# Altium integrated library Res-SMD_V2.IntLib: 2369 symbols (part 8 of 18)
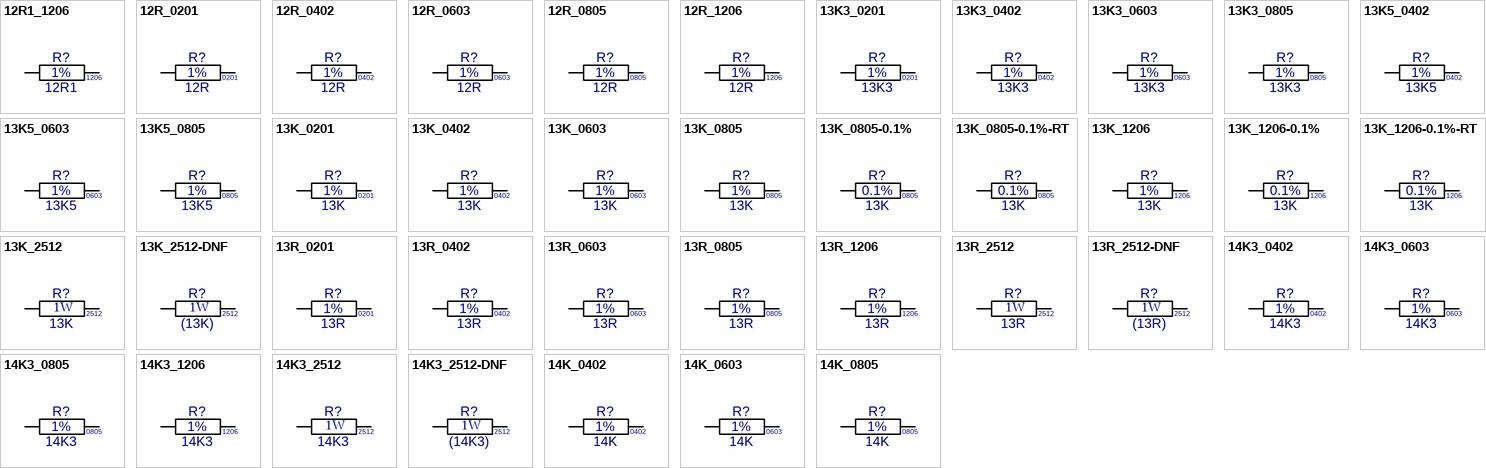
[diagram p66: symbols 12R1_1206 to 14K_0805]

## 13K_2512
designator R?, comment value 13K  Watt: 1W  Text1: 2512  (hidden comment: 13K_R2512)
Resistor Thick Film; Manufacturer: Various; Part Number: 13K 2512 1%; Tol: 1%; Package: RESC2512X71N; EDM-PN: *; Text2: *; Reutech PN: *; SAAB PN: *; DCE Part No: *
footprint RESC2512X71N (Chip Resistor, 2512, 2-Leads, Body 6.3x3.2mm, IPC Medium Density)
pins: 1, 2

## 13K_2512-DNF
designator R?, comment value (13K)  Watt: 1W  Text1: 2512  (hidden comment: 13K_R2512)
Resistor Thick Film - Do not Fit; Manufacturer: Various; Part Number: DNF - 13K 2512 1%; Tol: 1%; Package: RESC2512X71N; EDM-PN: *; Text2: *; Reutech PN: *; SAAB PN: *; DCE Part No: *
footprint RESC2512X71N (Chip Resistor, 2512, 2-Leads, Body 6.3x3.2mm, IPC Medium Density)
pins: 1, 2

## 13R_0201
designator R?, comment value 13R  Tol: 1%  Text1: 0201  (hidden comment: 13R_R0201_1%)
Resistor Chip SMD; Manufacturer: Various; Part Number: 13R 0201 1%; Watt: 31mW; Package: RESC0201X33N; EDM-PN: *; Text2: *; Reutech PN: *; SAAB PN: *; DCE Part No: *
footprint RESC0201X33N (Chip Resistor, 0201, 2-Leads, Body 0.6x0.3mm, IPC Medium Density)
pins: 1, 2

## 13R_0402
designator R?, comment value 13R  Tol: 1%  Text1: 0402  (hidden comment: 13R_R0402_1%)
Resistor Chip SMD; Manufacturer: Various; Part Number: 13R 0402 1%; Watt: 63mW; Package: RESC0402X40N; EDM-PN: *; Text2: *; Reutech PN: *; SAAB PN: *; DCE Part No: *
footprint RESC0402X40N (Chip Resistor, 0402, 2-Leads, Body 1.1x0.5mm, IPC Medium Density)
pins: 1, 2

## 13R_0603
designator R?, comment value 13R  Tol: 1%  Text1: 0603  (hidden comment: 13R_R0603_1%)
Resistor Chip SMD; Manufacturer: Various; Part Number: 13R 0603 1%; Watt: 100mW; Package: RESC0603X60N; EDM-PN: *; Text2: *; Reutech PN: *; SAAB PN: *; DCE Part No: *
footprint RESC0603X60N (Chip Resistor, 0603, 2-Leads, Body 1.6x0.8mm, IPC Medium Density)
pins: 1, 2

## 13R_0805
designator R?, comment value 13R  Tol: 1%  Text1: 0805  (hidden comment: 13R_R0805_1%)
Resistor Chip SMD; Manufacturer: Various; Part Number: 13R 0805 1%; Watt: 125mW; Package: RESC0805X65N; EDM-PN: *; Text2: *; Reutech PN: *; SAAB PN: *; DCE Part No: *
footprint RESC0805X65N (Chip Resistor, 0805, 2-Leads, Body 2.0x1.3mm, IPC Medium Density)
pins: 1, 2

## 13R_1206
designator R?, comment value 13R  Tol: 1%  Text1: 1206  (hidden comment: 13R_R1206_1%)
Resistor Chip SMD; Manufacturer: Various; Part Number: 13R 1206 1%; Watt: 250mW; Package: RESC1206X71N; EDM-PN: *; Text2: *; Reutech PN: *; SAAB PN: *; DCE Part No: *
footprint RESC1206X71N (Chip Resistor, 1206, 2-Leads, Body 3.2x1.6mm, IPC Medium Density)
pins: 1, 2

## 13R_2512
designator R?, comment value 13R  Watt: 1W  Text1: 2512  (hidden comment: 13R_R2512)
Resistor Thick Film; Manufacturer: Various; Part Number: 13R 2512 1%; Tol: 1%; Package: RESC2512X71N; EDM-PN: *; Text2: *; Reutech PN: *; SAAB PN: *; DCE Part No: *
footprint RESC2512X71N (Chip Resistor, 2512, 2-Leads, Body 6.3x3.2mm, IPC Medium Density)
pins: 1, 2

## 13R_2512-DNF
designator R?, comment value (13R)  Watt: 1W  Text1: 2512  (hidden comment: 13R_R2512)
Resistor Thick Film - Do not Fit; Manufacturer: Various; Part Number: DNF - 13R 2512 1%; Tol: 1%; Package: RESC2512X71N; EDM-PN: *; Text2: *; Reutech PN: *; SAAB PN: *; DCE Part No: *
footprint RESC2512X71N (Chip Resistor, 2512, 2-Leads, Body 6.3x3.2mm, IPC Medium Density)
pins: 1, 2

## 14K3_0402
designator R?, comment value 14K3  Tol: 1%  Text1: 0402  (hidden comment: 14K3_R0402_1%)
Resistor Chip SMD; Manufacturer: Various; Part Number: 14K3 0402 1%; Watt: 63mW; Package: RESC0402X40N; EDM-PN: *; Text2: *; Reutech PN: *; SAAB PN: *; DCE Part No: *
footprint RESC0402X40N (Chip Resistor, 0402, 2-Leads, Body 1.1x0.5mm, IPC Medium Density)
pins: 1, 2

## 14K3_0603
designator R?, comment value 14K3  Tol: 1%  Text1: 0603  (hidden comment: 14K3_R0603_1%)
Resistor Chip SMD; Manufacturer: Various; Part Number: 14K3 0603 1%; Watt: 100mW; Package: RESC0603X60N; EDM-PN: *; Text2: *; Reutech PN: *; SAAB PN: *; DCE Part No: *
footprint RESC0603X60N (Chip Resistor, 0603, 2-Leads, Body 1.6x0.8mm, IPC Medium Density)
pins: 1, 2

## 14K3_0805
designator R?, comment value 14K3  Tol: 1%  Text1: 0805  (hidden comment: 14K3_R0805_1%)
Resistor Chip SMD; Manufacturer: Various; Part Number: 14K3 0805 1%; Watt: 125mW; Package: RESC0805X65N; EDM-PN: *; Text2: *; Reutech PN: *; SAAB PN: *; DCE Part No: *
footprint RESC0805X65N (Chip Resistor, 0805, 2-Leads, Body 2.0x1.3mm, IPC Medium Density)
pins: 1, 2

## 14K3_1206
designator R?, comment value 14K3  Tol: 1%  Text1: 1206  (hidden comment: 14K3_R1206_1%)
Resistor Chip SMD; Manufacturer: Various; Part Number: 14K3 1206 1%; Watt: 250mW; Package: RESC1206X71N; EDM-PN: *; Text2: *; Reutech PN: *; SAAB PN: *; DCE Part No: *
footprint RESC1206X71N (Chip Resistor, 1206, 2-Leads, Body 3.2x1.6mm, IPC Medium Density)
pins: 1, 2

## 14K3_2512
designator R?, comment value 14K3  Watt: 1W  Text1: 2512  (hidden comment: 14K3_R2512)
Resistor Thick Film; Manufacturer: Various; Part Number: 14K3 2512 1%; Tol: 1%; Package: RESC2512X71N; EDM-PN: *; Text2: *; Reutech PN: *; SAAB PN: *; DCE Part No: *
footprint RESC2512X71N (Chip Resistor, 2512, 2-Leads, Body 6.3x3.2mm, IPC Medium Density)
pins: 1, 2

## 14K3_2512-DNF
designator R?, comment value (14K3)  Watt: 1W  Text1: 2512  (hidden comment: 14K3_R2512)
Resistor Thick Film - Do not Fit; Manufacturer: Various; Part Number: DNF - 14K2 2512 1%; Tol: 1%; Package: RESC2512X71N; EDM-PN: *; Text2: *; Reutech PN: *; SAAB PN: *; DCE Part No: *
footprint RESC2512X71N (Chip Resistor, 2512, 2-Leads, Body 6.3x3.2mm, IPC Medium Density)
pins: 1, 2

## 14K_0402
designator R?, comment value 14K  Tol: 1%  Text1: 0402  (hidden comment: 14K_R0402_1%)
Resistor Chip SMD; Manufacturer: Various; Part Number: 14K 0402 1%; Watt: 63mW; Package: RESC0402X40N; EDM-PN: *; Text2: *; Reutech PN: *; SAAB PN: *; DCE Part No: *
footprint RESC0402X40N (Chip Resistor, 0402, 2-Leads, Body 1.1x0.5mm, IPC Medium Density)
pins: 1, 2

## 14K_0603
designator R?, comment value 14K  Tol: 1%  Text1: 0603  (hidden comment: 14K_R0603_1%)
Resistor Chip SMD; Manufacturer: Various; Part Number: 14K 0603 1%; Watt: 100mW; Package: RESC0603X60N; EDM-PN: *; Text2: *; Reutech PN: *; SAAB PN: *; DCE Part No: *
footprint RESC0603X60N (Chip Resistor, 0603, 2-Leads, Body 1.6x0.8mm, IPC Medium Density)
pins: 1, 2

## 14K_0805
designator R?, comment value 14K  Tol: 1%  Text1: 0805  (hidden comment: 14K_R0805_1%)
Resistor Chip SMD; Manufacturer: Various; Part Number: 14K 0805 1%; Watt: 125mW; Package: RESC0805X65N; EDM-PN: *; Text2: *; Reutech PN: *; SAAB PN: *; DCE Part No: *
footprint RESC0805X65N (Chip Resistor, 0805, 2-Leads, Body 2.0x1.3mm, IPC Medium Density)
pins: 1, 2

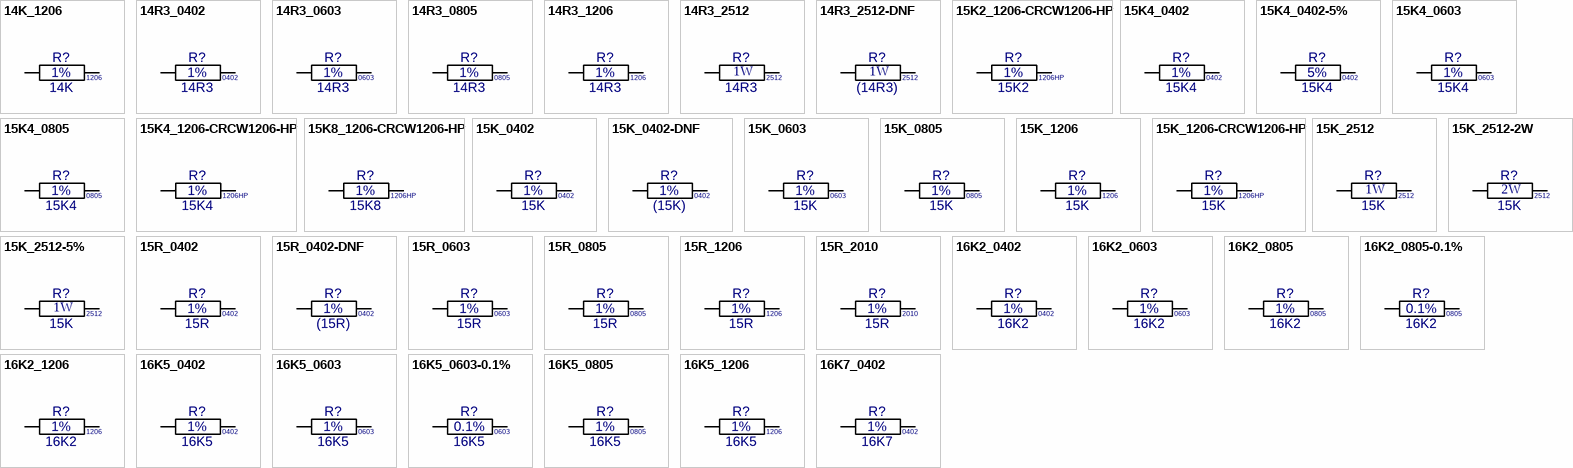
[diagram p24: symbols 14K_1206 to 16K7_0402]

## 14K_1206
designator R?, comment value 14K  Tol: 1%  Text1: 1206  (hidden comment: 14K_R1206_1%)
Resistor Chip SMD; Manufacturer: Various; Part Number: 14K 1206 1%; Watt: 250mW; Package: RESC1206X71N; EDM-PN: *; Text2: *; Reutech PN: *; SAAB PN: *; DCE Part No: *
footprint RESC1206X71N (Chip Resistor, 1206, 2-Leads, Body 3.2x1.6mm, IPC Medium Density)
pins: 1, 2

## 14R3_0402
designator R?, comment value 14R3  Tol: 1%  Text1: 0402  (hidden comment: 14R3_R0402_1%)
Resistor Chip SMD; Manufacturer: Various; Part Number: 14R3 0402 1%; Watt: 63mW; Package: RESC0402X40N; EDM-PN: *; Text2: *; Reutech PN: *; SAAB PN: *; DCE Part No: *
footprint RESC0402X40N (Chip Resistor, 0402, 2-Leads, Body 1.1x0.5mm, IPC Medium Density)
pins: 1, 2

## 14R3_0603
designator R?, comment value 14R3  Tol: 1%  Text1: 0603  (hidden comment: 14R3_R0603_1%)
Resistor Chip SMD; Manufacturer: Various; Part Number: 14R3 0603 1%; Watt: 100mW; Package: RESC0603X60N; EDM-PN: *; Text2: *; Reutech PN: *; SAAB PN: *; DCE Part No: *
footprint RESC0603X60N (Chip Resistor, 0603, 2-Leads, Body 1.6x0.8mm, IPC Medium Density)
pins: 1, 2

## 14R3_0805
designator R?, comment value 14R3  Tol: 1%  Text1: 0805  (hidden comment: 14R3_R0805_1%)
Resistor Chip SMD; Manufacturer: Various; Part Number: 14R3 0805 1%; Watt: 125mW; Package: RESC0805X65N; EDM-PN: *; Text2: *; Reutech PN: *; SAAB PN: *; DCE Part No: *
footprint RESC0805X65N (Chip Resistor, 0805, 2-Leads, Body 2.0x1.3mm, IPC Medium Density)
pins: 1, 2

## 14R3_1206
designator R?, comment value 14R3  Tol: 1%  Text1: 1206  (hidden comment: 14R3_R1206_1%)
Resistor Chip SMD; Manufacturer: Various; Part Number: 14R3 1206 1%; Watt: 250mW; Package: RESC1206X71N; EDM-PN: *; Text2: *; Reutech PN: *; SAAB PN: *; DCE Part No: *
footprint RESC1206X71N (Chip Resistor, 1206, 2-Leads, Body 3.2x1.6mm, IPC Medium Density)
pins: 1, 2

## 14R3_2512
designator R?, comment value 14R3  Watt: 1W  Text1: 2512  (hidden comment: 14R3_R2512)
Resistor Thick Film; Manufacturer: Various; Part Number: 14R3 2512 1%; Tol: 1%; Package: RESC2512X71N; EDM-PN: *; Text2: *; Reutech PN: *; SAAB PN: *; DCE Part No: *
footprint RESC2512X71N (Chip Resistor, 2512, 2-Leads, Body 6.3x3.2mm, IPC Medium Density)
pins: 1, 2

## 14R3_2512-DNF
designator R?, comment value (14R3)  Watt: 1W  Text1: 2512  (hidden comment: 14R3_R2512)
Resistor Thick Film - Do not Fit; Manufacturer: Various; Part Number: DNF - 14R2 2512 1%; Tol: 1%; Package: RESC2512X71N; EDM-PN: *; Text2: *; Reutech PN: *; SAAB PN: *; DCE Part No: *
footprint RESC2512X71N (Chip Resistor, 2512, 2-Leads, Body 6.3x3.2mm, IPC Medium Density)
pins: 1, 2

## 15K2_1206-CRCW1206-HP
designator R?, comment value 15K2  Tol: 1%  Text1: 1206HP  (hidden comment: 15K2_R1206_1%-CRCW1206-HP)
Resistor Chip Pulse Proof High Power Thick Film; Manufacturer: Vishay; Part Number: CRCW120615K2FKEAHP; Watt: 500mW; Package: CRCW1206-HP; EDM-PN: *; Text2: *; Reutech PN: *; SAAB PN: *; DCE Part No: *
footprint CRCW1206-HP (CCRCW1206-HP 3.2x1.6mm, IPC Medium Density)
pins: 1, 2

## 15K4_0402
designator R?, comment value 15K4  Tol: 1%  Text1: 0402  (hidden comment: 15K4_R0402_1%)
Resistor Chip SMD; Manufacturer: Various; Part Number: 15K4 0402 1%; Watt: 63mW; Package: RESC0402X40N; EDM-PN: *; Text2: *; Reutech PN: *; SAAB PN: *; DCE Part No: *
footprint RESC0402X40N (Chip Resistor, 0402, 2-Leads, Body 1.1x0.5mm, IPC Medium Density)
pins: 1, 2

## 15K4_0402-5%
designator R?, comment value 15K4  Tol: 5%  Text1: 0402  (hidden comment: 15K4_R0402_5%)
Resistor Chip SMD; Manufacturer: Various; Part Number: 15K4 0402 5%; Watt: 63mW; Package: RESC0402X40N; EDM-PN: *; Text2: *; Reutech PN: *; SAAB PN: *; DCE Part No: *
footprint RESC0402X40N (Chip Resistor, 0402, 2-Leads, Body 1.1x0.5mm, IPC Medium Density)
pins: 1, 2

## 15K4_0603
designator R?, comment value 15K4  Tol: 1%  Text1: 0603  (hidden comment: 15K4_R0603_1%)
Resistor Chip SMD; Manufacturer: Various; Part Number: 15K4 0603 1%; Watt: 100mW; Package: RESC0603X60N; EDM-PN: *; Text2: *; Reutech PN: *; SAAB PN: *; DCE Part No: *
footprint RESC0603X60N (Chip Resistor, 0603, 2-Leads, Body 1.6x0.8mm, IPC Medium Density)
pins: 1, 2

## 15K4_0805
designator R?, comment value 15K4  Tol: 1%  Text1: 0805  (hidden comment: 15K4_R0805_1%)
Resistor Chip SMD; Manufacturer: Various; Part Number: 15K4 0805 1%; Watt: 125mW; Package: RESC0805X65N; EDM-PN: *; Text2: *; Reutech PN: *; SAAB PN: *; DCE Part No: *
footprint RESC0805X65N (Chip Resistor, 0805, 2-Leads, Body 2.0x1.3mm, IPC Medium Density)
pins: 1, 2

## 15K4_1206-CRCW1206-HP
designator R?, comment value 15K4  Tol: 1%  Text1: 1206HP  (hidden comment: 15K4_R1206_1%-CRCW1206-HP)
Resistor Chip Pulse Proof High Power Thick Film; Manufacturer: Vishay; Part Number: CRCW120615K4FKEAHP; Watt: 500mW; Package: CRCW1206-HP; EDM-PN: *; Text2: *; Reutech PN: *; SAAB PN: *; DCE Part No: *
footprint CRCW1206-HP (CCRCW1206-HP 3.2x1.6mm, IPC Medium Density)
pins: 1, 2

## 15K8_1206-CRCW1206-HP
designator R?, comment value 15K8  Tol: 1%  Text1: 1206HP  (hidden comment: 15K8_R1206_1%-CRCW1206-HP)
Resistor Chip Pulse Proof High Power Thick Film; Manufacturer: Vishay; Part Number: CRCW120615K8FKEAHP; Watt: 500mW; Package: CRCW1206-HP; EDM-PN: *; Text2: *; Reutech PN: *; SAAB PN: *; DCE Part No: *
footprint CRCW1206-HP (CCRCW1206-HP 3.2x1.6mm, IPC Medium Density)
pins: 1, 2

## 15K_0402
designator R?, comment value 15K  Tol: 1%  Text1: 0402  (hidden comment: 15K_R0402_1%)
Resistor Chip SMD; Manufacturer: Various; Part Number: 15K 0402 1%; Watt: 63mW; EDM-PN: RES898; SAAB PN: 1ACF01346AEA; Package: RESC0402X40N; Text2: *; Reutech PN: *; DCE Part No: *
footprint RESC0402X40N (Chip Resistor, 0402, 2-Leads, Body 1.1x0.5mm, IPC Medium Density)
pins: 1, 2

## 15K_0402-DNF
designator R?, comment value (15K)  Tol: 1%  Text1: 0402  (hidden comment: 15K_R0402_1%)
Resistor Chip SMD - Do not Fit; Manufacturer: Various; Part Number: DNF - 15K 0402 1%; Watt: 63mW; EDM-PN: RES898; SAAB PN: 1ACF01346AEA; Package: RESC0402X40N; Text2: *; Reutech PN: *; DCE Part No: *
footprint RESC0402X40N (Chip Resistor, 0402, 2-Leads, Body 1.1x0.5mm, IPC Medium Density)
pins: 1, 2

## 15K_0603
designator R?, comment value 15K  Tol: 1%  Text1: 0603  (hidden comment: 15K_R0603_1%)
Resistor Chip SMD; Manufacturer: Various; Part Number: 15K 0603 1%; Watt: 100mW; EDM-PN: RES226; Package: RESC0603X60N; Text2: *; Reutech PN: 5905-93-1502; SAAB PN: *; DCE Part No: *
footprint RESC0603X60N (Chip Resistor, 0603, 2-Leads, Body 1.6x0.8mm, IPC Medium Density)
pins: 1, 2

## 15K_0805
designator R?, comment value 15K  Tol: 1%  Text1: 0805  (hidden comment: 15K_R0805_1%)
Resistor Chip SMD; Manufacturer: Various; Part Number: 15K 0805 1%; Watt: 125mW; EDM-PN: RES46; SAAB PN: 1ACF00202AEA; Package: RESC0805X65N; Text2: *; Reutech PN: *; DCE Part No: *
footprint RESC0805X65N (Chip Resistor, 0805, 2-Leads, Body 2.0x1.3mm, IPC Medium Density)
pins: 1, 2

## 15K_1206
designator R?, comment value 15K  Tol: 1%  Text1: 1206  (hidden comment: 15K_R1206_1%)
Resistor Chip SMD; Manufacturer: Various; Part Number: 15K 1206 1%; Watt: 250mW; Package: RESC1206X71N; EDM-PN: *; Text2: *; Reutech PN: *; SAAB PN: *; DCE Part No: *
footprint RESC1206X71N (Chip Resistor, 1206, 2-Leads, Body 3.2x1.6mm, IPC Medium Density)
pins: 1, 2

## 15K_1206-CRCW1206-HP
designator R?, comment value 15K  Tol: 1%  Text1: 1206HP  (hidden comment: 15K_R1206_1%-CRCW1206-HP)
Resistor Chip Pulse Proof High Power Thick Film; Manufacturer: Vishay; Part Number: CRCW120615K0FKEAHP; Watt: 500mW; Package: CRCW1206-HP; EDM-PN: *; Text2: *; Reutech PN: *; SAAB PN: *; DCE Part No: *
footprint CRCW1206-HP (CCRCW1206-HP 3.2x1.6mm, IPC Medium Density)
pins: 1, 2

## 15K_2512
designator R?, comment value 15K  Watt: 1W  Text1: 2512  (hidden comment: 15K_R2512)
Resistor Thick Film; Manufacturer: Various; Part Number: 15K 2512 1%; Tol: 1%; Package: RESC2512X71N; EDM-PN: *; Text2: *; Reutech PN: *; SAAB PN: *; DCE Part No: *
footprint RESC2512X71N (Chip Resistor, 2512, 2-Leads, Body 6.3x3.2mm, IPC Medium Density)
pins: 1, 2

## 15K_2512-2W
designator R?, comment value 15K  Watt: 2W  Text1: 2512  (hidden comment: 15K_R2512)
Resistor Thick Film; Manufacturer: Bourns; Part Number: CRM2512-FX-1502ELF; Tol: 1%; Package: RESC2512X71N; EDM-PN: *; Text2: *; Reutech PN: *; SAAB PN: *; DCE Part No: *
footprint RESC2512X71N (Chip Resistor, 2512, 2-Leads, Body 6.3x3.2mm, IPC Medium Density)
pins: 1, 2

## 15K_2512-5%
designator R?, comment value 15K  Watt: 1W  Text1: 2512  (hidden comment: 15K_R2512 5%)
Resistor Thick Film; Manufacturer: Various; Part Number: 15K 2512 5%; Reutech PN: 5905-CR-0004; Package: RESC2512X71N; EDM-PN: *; Text2: *; Tol: 5%; SAAB PN: *; DCE Part No: *
footprint RESC2512X71N (Chip Resistor, 2512, 2-Leads, Body 6.3x3.2mm, IPC Medium Density)
pins: 1, 2

## 15R_0402
designator R?, comment value 15R  Tol: 1%  Text1: 0402  (hidden comment: 15R_R0402_1%)
Resistor Chip SMD; Manufacturer: Various; Part Number: 15R 0402 1%; Watt: 63mW; Package: RESC0402X40N; EDM-PN: *; Text2: *; Reutech PN: *; SAAB PN: *; DCE Part No: *
footprint RESC0402X40N (Chip Resistor, 0402, 2-Leads, Body 1.1x0.5mm, IPC Medium Density)
pins: 1, 2

## 15R_0402-DNF
designator R?, comment value (15R)  Tol: 1%  Text1: 0402  (hidden comment: 15R_R0402_1%-DNF)
Resistor Chip SMD - Do not Fit; Manufacturer: Various; Part Number: DNF - 15R 0402 1%; Watt: 63mW; Package: RESC0402X40N; EDM-PN: *; Text2: *; Reutech PN: *; SAAB PN: *; DCE Part No: *
footprint RESC0402X40N (Chip Resistor, 0402, 2-Leads, Body 1.1x0.5mm, IPC Medium Density)
pins: 1, 2

## 15R_0603
designator R?, comment value 15R  Tol: 1%  Text1: 0603  (hidden comment: 15R_R0603_1%)
Resistor Chip SMD; Manufacturer: Various; Part Number: 15R 0603 1%; Watt: 100mW; Package: RESC0603X60N; EDM-PN: *; Text2: *; Reutech PN: 5905-93-015; SAAB PN: *; DCE Part No: *
footprint RESC0603X60N (Chip Resistor, 0603, 2-Leads, Body 1.6x0.8mm, IPC Medium Density)
pins: 1, 2

## 15R_0805
designator R?, comment value 15R  Tol: 1%  Text1: 0805  (hidden comment: 15R_R0805_1%)
Resistor Chip SMD; Manufacturer: Various; Part Number: 15R 0805 1%; Watt: 125mW; Package: RESC0805X65N; EDM-PN: *; Text2: *; Reutech PN: *; SAAB PN: *; DCE Part No: *
footprint RESC0805X65N (Chip Resistor, 0805, 2-Leads, Body 2.0x1.3mm, IPC Medium Density)
pins: 1, 2

## 15R_1206
designator R?, comment value 15R  Tol: 1%  Text1: 1206  (hidden comment: 15R_R1206_1%)
Resistor Chip SMD; Manufacturer: Various; Part Number: 15R 1206 1%; Watt: 250mW; Package: RESC1206X71N; EDM-PN: *; Text2: *; Reutech PN: *; SAAB PN: *; DCE Part No: *
footprint RESC1206X71N (Chip Resistor, 1206, 2-Leads, Body 3.2x1.6mm, IPC Medium Density)
pins: 1, 2

## 15R_2010
designator R?, comment value 15R  Tol: 1%  Text1: 2010  (hidden comment: 15R_R2010_1%)
Resistor Chip SMD; Manufacturer: Various; Part Number: 33R 2010 1%; Watt: 500mW; Package: RESC2010X71N; EDM-PN: *; Text2: *; Reutech PN: *; SAAB PN: *; DCE Part No: *
footprint RESC2010X71N (Chip Resistor, 2010, 2-Leads, Body 5.0x2.5mm, IPC Medium Density)
pins: 1, 2

## 16K2_0402
designator R?, comment value 16K2  Tol: 1%  Text1: 0402  (hidden comment: 16K2_R0402_1%)
Resistor Chip SMD; Manufacturer: Various; Part Number: 16K2 0402 1%; Watt: 63mW; Package: RESC0402X40N; EDM-PN: *; Text2: *; Reutech PN: *; SAAB PN: *; DCE Part No: *
footprint RESC0402X40N (Chip Resistor, 0402, 2-Leads, Body 1.1x0.5mm, IPC Medium Density)
pins: 1, 2

## 16K2_0603
designator R?, comment value 16K2  Tol: 1%  Text1: 0603  (hidden comment: 16K2_R0603_1%)
Resistor Chip SMD; Manufacturer: Various; Part Number: 16K2 0603 1%; Watt: 100mW; Package: RESC0603X60N; EDM-PN: *; Text2: *; Reutech PN: *; SAAB PN: *; DCE Part No: *
footprint RESC0603X60N (Chip Resistor, 0603, 2-Leads, Body 1.6x0.8mm, IPC Medium Density)
pins: 1, 2

## 16K2_0805
designator R?, comment value 16K2  Tol: 1%  Text1: 0805  (hidden comment: 16K2_R0805_1%)
Resistor Chip SMD; Manufacturer: Various; Part Number: 16K2 0805 1%; Watt: 125mW; Package: RESC0805X65N; EDM-PN: *; Text2: *; Reutech PN: *; SAAB PN: *; DCE Part No: *
footprint RESC0805X65N (Chip Resistor, 0805, 2-Leads, Body 2.0x1.3mm, IPC Medium Density)
pins: 1, 2

## 16K2_0805-0.1%
designator R?, comment value 16K2  Tol: 0.1%  Text1: 0805  (hidden comment: 16K2_R0805_0.1%)
Resistor Chip SMD; Manufacturer: Various; Part Number: 16K2 0805 0.1%; Watt: 125mW; Package: RESC0805X65N; EDM-PN: *; Text2: *; Reutech PN: *; SAAB PN: *; DCE Part No: *
footprint RESC0805X65N (Chip Resistor, 0805, 2-Leads, Body 2.0x1.3mm, IPC Medium Density)
pins: 1, 2

## 16K2_1206
designator R?, comment value 16K2  Tol: 1%  Text1: 1206  (hidden comment: 16K2_R1206_1%)
Resistor Chip SMD; Manufacturer: Various; Part Number: 16K2 1206 1%; Watt: 250mW; Package: RESC1206X71N; EDM-PN: *; Text2: *; Reutech PN: *; SAAB PN: *; DCE Part No: *
footprint RESC1206X71N (Chip Resistor, 1206, 2-Leads, Body 3.2x1.6mm, IPC Medium Density)
pins: 1, 2

## 16K5_0402
designator R?, comment value 16K5  Tol: 1%  Text1: 0402  (hidden comment: 16K5_R0402_1%)
Resistor Chip SMD; Manufacturer: Various; Part Number: 16K5 0402 1%; Watt: 63mW; Package: RESC0402X40N; EDM-PN: *; Text2: *; Reutech PN: *; SAAB PN: *; DCE Part No: *
footprint RESC0402X40N (Chip Resistor, 0402, 2-Leads, Body 1.1x0.5mm, IPC Medium Density)
pins: 1, 2

## 16K5_0603
designator R?, comment value 16K5  Tol: 1%  Text1: 0603  (hidden comment: 16K5_R0603_1%)
Resistor Chip SMD; Manufacturer: Various; Part Number: 16K5 0603 1%; Watt: 100mW; Package: RESC0603X60N; EDM-PN: *; Text2: *; Reutech PN: *; SAAB PN: *; DCE Part No: *
footprint RESC0603X60N (Chip Resistor, 0603, 2-Leads, Body 1.6x0.8mm, IPC Medium Density)
pins: 1, 2

## 16K5_0603-0.1%
designator R?, comment value 16K5  Tol: 0.1%  Text1: 0603  (hidden comment: 16K5_R0603_0.1%)
Resistor Chip SMD; Manufacturer: Various; Part Number: 16K5 0603 0.1%; Watt: 100mW; Package: RESC0603X60N; EDM-PN: *; Text2: *; Reutech PN: *; SAAB PN: *; DCE Part No: *
footprint RESC0603X60N (Chip Resistor, 0603, 2-Leads, Body 1.6x0.8mm, IPC Medium Density)
pins: 1, 2

## 16K5_0805
designator R?, comment value 16K5  Tol: 1%  Text1: 0805  (hidden comment: 16K5_R0805_1%)
Resistor Chip SMD; Manufacturer: Various; Part Number: 16K5 0805 1%; Watt: 125mW; Package: RESC0805X65N; EDM-PN: *; Text2: *; Reutech PN: *; SAAB PN: *; DCE Part No: *
footprint RESC0805X65N (Chip Resistor, 0805, 2-Leads, Body 2.0x1.3mm, IPC Medium Density)
pins: 1, 2

## 16K5_1206
designator R?, comment value 16K5  Tol: 1%  Text1: 1206  (hidden comment: 16K5_R1206_1%)
Resistor Chip SMD; Manufacturer: Various; Part Number: 16K5 1206 1%; Watt: 250mW; Package: RESC1206X71N; EDM-PN: *; Text2: *; Reutech PN: *; SAAB PN: *; DCE Part No: *
footprint RESC1206X71N (Chip Resistor, 1206, 2-Leads, Body 3.2x1.6mm, IPC Medium Density)
pins: 1, 2

## 16K7_0402
designator R?, comment value 16K7  Tol: 1%  Text1: 0402  (hidden comment: 16K7_R0402_1%)
Resistor Chip SMD; Manufacturer: Various; Part Number: 16K7 0402 1%; Watt: 63mW; Package: RESC0402X40N; EDM-PN: *; Text2: *; Reutech PN: *; SAAB PN: *; DCE Part No: *
footprint RESC0402X40N (Chip Resistor, 0402, 2-Leads, Body 1.1x0.5mm, IPC Medium Density)
pins: 1, 2

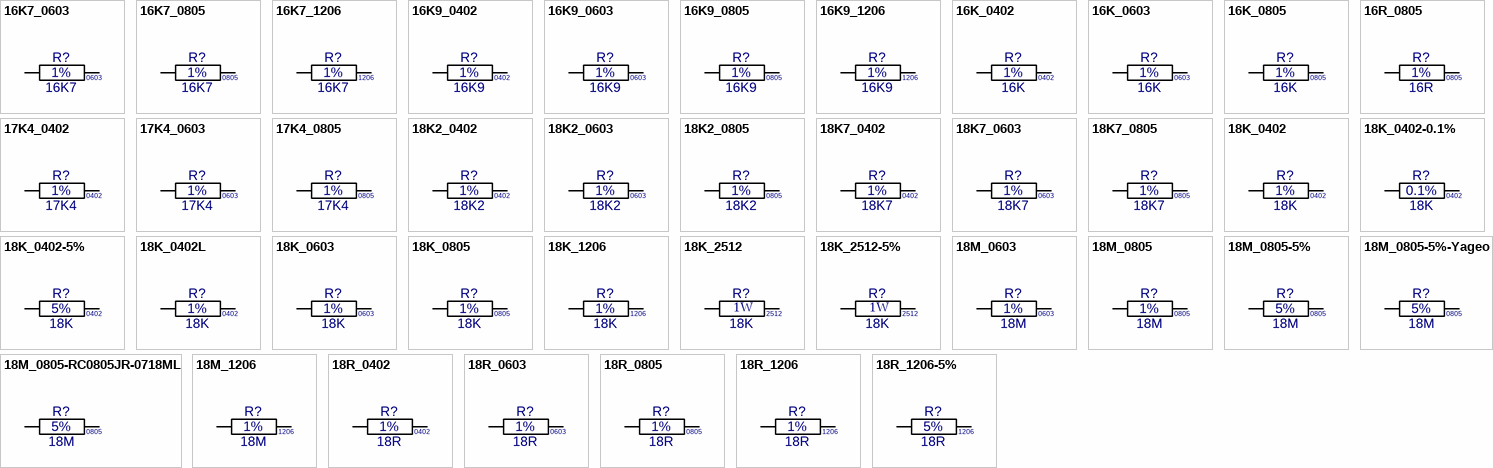
[diagram p25: symbols 16K7_0603 to 18R_1206-5%]

## 16K7_0603
designator R?, comment value 16K7  Tol: 1%  Text1: 0603  (hidden comment: 16K7_R0603_1%)
Resistor Chip SMD; Manufacturer: Various; Part Number: 16K7 0603 1%; Watt: 100mW; Package: RESC0603X60N; EDM-PN: *; Text2: *; Reutech PN: *; SAAB PN: *; DCE Part No: *
footprint RESC0603X60N (Chip Resistor, 0603, 2-Leads, Body 1.6x0.8mm, IPC Medium Density)
pins: 1, 2

## 16K7_0805
designator R?, comment value 16K7  Tol: 1%  Text1: 0805  (hidden comment: 16K7_R0805_1%)
Resistor Chip SMD; Manufacturer: Various; Part Number: 16K7 0805 1%; Watt: 125mW; Package: RESC0805X65N; EDM-PN: *; Text2: *; Reutech PN: *; SAAB PN: *; DCE Part No: *
footprint RESC0805X65N (Chip Resistor, 0805, 2-Leads, Body 2.0x1.3mm, IPC Medium Density)
pins: 1, 2

## 16K7_1206
designator R?, comment value 16K7  Tol: 1%  Text1: 1206  (hidden comment: 16K7_R1206_1%)
Resistor Chip SMD; Manufacturer: Various; Part Number: 16K7 1206 1%; Watt: 250mW; Package: RESC1206X71N; EDM-PN: *; Text2: *; Reutech PN: *; SAAB PN: *; DCE Part No: *
footprint RESC1206X71N (Chip Resistor, 1206, 2-Leads, Body 3.2x1.6mm, IPC Medium Density)
pins: 1, 2

## 16K9_0402
designator R?, comment value 16K9  Tol: 1%  Text1: 0402  (hidden comment: 16K9_R0402_1%)
Resistor Chip SMD; Manufacturer: Various; Part Number: 16K9 0402 1%; Watt: 63mW; Package: RESC0402X40N; EDM-PN: *; Text2: *; Reutech PN: *; SAAB PN: *; DCE Part No: *
footprint RESC0402X40N (Chip Resistor, 0402, 2-Leads, Body 1.1x0.5mm, IPC Medium Density)
pins: 1, 2

## 16K9_0603
designator R?, comment value 16K9  Tol: 1%  Text1: 0603  (hidden comment: 16K9_R0603_1%)
Resistor Chip SMD; Manufacturer: Various; Part Number: 16K9 0603 1%; Watt: 100mW; Package: RESC0603X60N; EDM-PN: *; Text2: *; Reutech PN: *; SAAB PN: *; DCE Part No: *
footprint RESC0603X60N (Chip Resistor, 0603, 2-Leads, Body 1.6x0.8mm, IPC Medium Density)
pins: 1, 2

## 16K9_0805
designator R?, comment value 16K9  Tol: 1%  Text1: 0805  (hidden comment: 16K9_R0805_1%)
Resistor Chip SMD; Manufacturer: Various; Part Number: 16K9 0805 1%; Watt: 125mW; Package: RESC0805X65N; EDM-PN: *; Text2: *; Reutech PN: *; SAAB PN: *; DCE Part No: *
footprint RESC0805X65N (Chip Resistor, 0805, 2-Leads, Body 2.0x1.3mm, IPC Medium Density)
pins: 1, 2

## 16K9_1206
designator R?, comment value 16K9  Tol: 1%  Text1: 1206  (hidden comment: 16K9_R1206_1%)
Resistor Chip SMD; Manufacturer: Various; Part Number: 16K9 1206 1%; Watt: 250mW; Package: RESC1206X71N; EDM-PN: *; Text2: *; Reutech PN: *; SAAB PN: *; DCE Part No: *
footprint RESC1206X71N (Chip Resistor, 1206, 2-Leads, Body 3.2x1.6mm, IPC Medium Density)
pins: 1, 2

## 16K_0402
designator R?, comment value 16K  Tol: 1%  Text1: 0402  (hidden comment: 16K_R0402_1%)
Resistor Chip SMD; Manufacturer: Various; Part Number: 16K 0402 1%; Watt: 63mW; Package: RESC0402X40N; EDM-PN: *; Text2: *; Reutech PN: *; SAAB PN: *; DCE Part No: *
footprint RESC0402X40N (Chip Resistor, 0402, 2-Leads, Body 1.1x0.5mm, IPC Medium Density)
pins: 1, 2

## 16K_0603
designator R?, comment value 16K  Tol: 1%  Text1: 0603  (hidden comment: 16K_R0603_1%)
Resistor Chip SMD; Manufacturer: Various; Part Number: 16K 0603 1%; Watt: 100mW; Package: RESC0603X60N; EDM-PN: *; Text2: *; Reutech PN: 5905-93-1602; SAAB PN: *; DCE Part No: *
footprint RESC0603X60N (Chip Resistor, 0603, 2-Leads, Body 1.6x0.8mm, IPC Medium Density)
pins: 1, 2

## 16K_0805
designator R?, comment value 16K  Tol: 1%  Text1: 0805  (hidden comment: 16K_R0805_1%)
Resistor Chip SMD; Manufacturer: Various; Part Number: 16K 0805 1%; Watt: 125mW; Package: RESC0805X65N; EDM-PN: *; Text2: *; Reutech PN: *; SAAB PN: *; DCE Part No: *
footprint RESC0805X65N (Chip Resistor, 0805, 2-Leads, Body 2.0x1.3mm, IPC Medium Density)
pins: 1, 2

## 16R_0805
designator R?, comment value 16R  Tol: 1%  Text1: 0805  (hidden comment: 16R_R0805_1%)
Resistor Chip SMD; Manufacturer: Various; Part Number: 16R 0805 1%; Watt: 125mW; Package: RESC0805X65N; EDM-PN: *; Text2: *; Reutech PN: *; SAAB PN: *; DCE Part No: *
footprint RESC0805X65N (Chip Resistor, 0805, 2-Leads, Body 2.0x1.3mm, IPC Medium Density)
pins: 1, 2

## 17K4_0402
designator R?, comment value 17K4  Tol: 1%  Text1: 0402  (hidden comment: 17K4_R0402_1%)
Resistor Chip SMD; Manufacturer: Various; Part Number: 17K4 0402 1%; Watt: 63mW; Package: RESC0402X40N; EDM-PN: *; Text2: *; Reutech PN: *; SAAB PN: *; DCE Part No: *
footprint RESC0402X40N (Chip Resistor, 0402, 2-Leads, Body 1.1x0.5mm, IPC Medium Density)
pins: 1, 2

## 17K4_0603
designator R?, comment value 17K4  Tol: 1%  Text1: 0603  (hidden comment: 17K4_R0603_1%)
Resistor Chip SMD; Manufacturer: Various; Part Number: 17K4 0603 1%; Watt: 100mW; Package: RESC0603X60N; EDM-PN: *; Text2: *; Reutech PN: *; SAAB PN: *; DCE Part No: *
footprint RESC0603X60N (Chip Resistor, 0603, 2-Leads, Body 1.6x0.8mm, IPC Medium Density)
pins: 1, 2

## 17K4_0805
designator R?, comment value 17K4  Tol: 1%  Text1: 0805  (hidden comment: 17K4_R0805_1%)
Resistor Chip SMD; Manufacturer: Various; Part Number: 17K4 0805 1%; Watt: 125mW; Package: RESC0805X65N; EDM-PN: *; Text2: *; Reutech PN: *; SAAB PN: *; DCE Part No: *
footprint RESC0805X65N (Chip Resistor, 0805, 2-Leads, Body 2.0x1.3mm, IPC Medium Density)
pins: 1, 2

## 18K2_0402
designator R?, comment value 18K2  Tol: 1%  Text1: 0402  (hidden comment: 18K2_R0402_1%)
Resistor Chip SMD; Manufacturer: Various; Part Number: 18K2 0402 1%; Watt: 63mW; Package: RESC0402X40N; EDM-PN: *; Text2: *; Reutech PN: *; SAAB PN: *; DCE Part No: *
footprint RESC0402X40N (Chip Resistor, 0402, 2-Leads, Body 1.1x0.5mm, IPC Medium Density)
pins: 1, 2

## 18K2_0603
designator R?, comment value 18K2  Tol: 1%  Text1: 0603  (hidden comment: 18K2_R0603_1%)
Resistor Chip SMD; Manufacturer: Various; Part Number: 18K2 0603 1%; Watt: 100mW; Package: RESC0603X60N; EDM-PN: *; Text2: *; Reutech PN: *; SAAB PN: *; DCE Part No: *
footprint RESC0603X60N (Chip Resistor, 0603, 2-Leads, Body 1.6x0.8mm, IPC Medium Density)
pins: 1, 2

## 18K2_0805
designator R?, comment value 18K2  Tol: 1%  Text1: 0805  (hidden comment: 18K2_R0805_1%)
Resistor Chip SMD; Manufacturer: Various; Part Number: 18K2 0805 1%; Watt: 125mW; Package: RESC0805X65N; EDM-PN: *; Text2: *; Reutech PN: *; SAAB PN: *; DCE Part No: *
footprint RESC0805X65N (Chip Resistor, 0805, 2-Leads, Body 2.0x1.3mm, IPC Medium Density)
pins: 1, 2

## 18K7_0402
designator R?, comment value 18K7  Tol: 1%  Text1: 0402  (hidden comment: 18K7_R0402_1%)
Resistor Chip SMD; Manufacturer: Various; Part Number: 18K7 0402 1%; Watt: 63mW; Package: RESC0402X40N; EDM-PN: *; Text2: *; Reutech PN: *; SAAB PN: *; DCE Part No: *
footprint RESC0402X40N (Chip Resistor, 0402, 2-Leads, Body 1.1x0.5mm, IPC Medium Density)
pins: 1, 2

## 18K7_0603
designator R?, comment value 18K7  Tol: 1%  Text1: 0603  (hidden comment: 18K7_R0603_1%)
Resistor Chip SMD; Manufacturer: Various; Part Number: 18K7 0603 1%; Watt: 100mW; Package: RESC0603X60N; EDM-PN: *; Text2: *; Reutech PN: *; SAAB PN: *; DCE Part No: *
footprint RESC0603X60N (Chip Resistor, 0603, 2-Leads, Body 1.6x0.8mm, IPC Medium Density)
pins: 1, 2

## 18K7_0805
designator R?, comment value 18K7  Tol: 1%  Text1: 0805  (hidden comment: 18K7_R0805_1%)
Resistor Chip SMD; Manufacturer: Various; Part Number: 18K7 0805 1%; Watt: 125mW; Package: RESC0805X65N; EDM-PN: *; Text2: *; Reutech PN: *; SAAB PN: *; DCE Part No: *
footprint RESC0805X65N (Chip Resistor, 0805, 2-Leads, Body 2.0x1.3mm, IPC Medium Density)
pins: 1, 2

## 18K_0402
designator R?, comment value 18K  Tol: 1%  Text1: 0402  (hidden comment: 18K_R0402_1%)
Resistor Chip SMD; Manufacturer: Various; Part Number: 18K 0402 1%; DCE Part No: 7734; Watt: 63mW; Package: RESC0402X40N; EDM-PN: *; Text2: *; Reutech PN: *; SAAB PN: *
footprint RESC0402X40N (Chip Resistor, 0402, 2-Leads, Body 1.1x0.5mm, IPC Medium Density)
pins: 1, 2

## 18K_0402-0.1%
designator R?, comment value 18K  Tol: 0.1%  Text1: 0402  (hidden comment: 18K_R0402_0.1%)
Resistor Chip SMD; Manufacturer: Various; Part Number: 18K 0402 0.1%; Watt: 63mW; Package: RESC0402X40N; EDM-PN: *; Text2: *; Reutech PN: *; SAAB PN: *; DCE Part No: *
footprint RESC0402X40N (Chip Resistor, 0402, 2-Leads, Body 1.1x0.5mm, IPC Medium Density)
pins: 1, 2

## 18K_0402-5%
designator R?, comment value 18K  Tol: 5%  Text1: 0402  (hidden comment: 18K_R0402_5%)
Resistor Chip SMD; Manufacturer: Various; Part Number: 18K 0402 5%; Watt: 63mW; Package: RESC0402X40N; EDM-PN: *; Text2: *; Reutech PN: *; SAAB PN: *; DCE Part No: *
footprint RESC0402X40N (Chip Resistor, 0402, 2-Leads, Body 1.1x0.5mm, IPC Medium Density)
pins: 1, 2

## 18K_0402L
designator R?, comment value 18K  Tol: 1%  Text1: 0402  (hidden comment: 18K_R0402_1%)
Resistor Chip SMD; Manufacturer: Various; Part Number: 18K 0402 1%; DCE Part No: 7734; Watt: 63mW; Package: RESC0402X40L; EDM-PN: *; Text2: *; Reutech PN: *; SAAB PN: *
footprint RESC0402X40L (Chip Resistor, 0402, 2-Leads, Body 1.1x0.5mm, IPC High Density)
pins: 1, 2

## 18K_0603
designator R?, comment value 18K  Tol: 1%  Text1: 0603  (hidden comment: 18K_R0603_1%)
Resistor Chip SMD; Manufacturer: Various; Part Number: 18K 0603 1%; Watt: 100mW; EDM-PN: RES812; Package: RESC0603X60N; Text2: *; Reutech PN: 5905-93-1802; SAAB PN: *; DCE Part No: *
footprint RESC0603X60N (Chip Resistor, 0603, 2-Leads, Body 1.6x0.8mm, IPC Medium Density)
pins: 1, 2

## 18K_0805
designator R?, comment value 18K  Tol: 1%  Text1: 0805  (hidden comment: 18K_R0805_1%)
Resistor Chip SMD; Manufacturer: Various; Part Number: 18K 0805 1%; Watt: 125mW; Package: RESC0805X65N; EDM-PN: *; Text2: *; Reutech PN: *; SAAB PN: *; DCE Part No: *
footprint RESC0805X65N (Chip Resistor, 0805, 2-Leads, Body 2.0x1.3mm, IPC Medium Density)
pins: 1, 2

## 18K_1206
designator R?, comment value 18K  Tol: 1%  Text1: 1206  (hidden comment: 18K_R1206_1%)
Resistor Chip SMD; Manufacturer: Various; Part Number: 18K 1206 1%; Watt: 250mW; Package: RESC1206X71N; EDM-PN: *; Text2: *; Reutech PN: *; SAAB PN: *; DCE Part No: *
footprint RESC1206X71N (Chip Resistor, 1206, 2-Leads, Body 3.2x1.6mm, IPC Medium Density)
pins: 1, 2

## 18K_2512
designator R?, comment value 18K  Watt: 1W  Text1: 2512  (hidden comment: 18K_R2512)
Resistor Thick Film; Manufacturer: Various; Part Number: 18K 2512 1%; Tol: 1%; Package: RESC2512X71N; EDM-PN: *; Text2: *; Reutech PN: *; SAAB PN: *; DCE Part No: *
footprint RESC2512X71N (Chip Resistor, 2512, 2-Leads, Body 6.3x3.2mm, IPC Medium Density)
pins: 1, 2

## 18K_2512-5%
designator R?, comment value 18K  Watt: 1W  Text1: 2512  (hidden comment: 18K_R2512 5%)
Resistor Thick Film; Manufacturer: Various; Part Number: 18K 2512 5%; Reutech PN: 5905-CR-0005; Package: RESC2512X71N; EDM-PN: *; Text2: *; Tol: 5%; SAAB PN: *; DCE Part No: *
footprint RESC2512X71N (Chip Resistor, 2512, 2-Leads, Body 6.3x3.2mm, IPC Medium Density)
pins: 1, 2

## 18M_0603
designator R?, comment value 18M  Tol: 1%  Text1: 0603  (hidden comment: 18M_R0603_1%)
Resistor Chip SMD; Manufacturer: Various; Part Number: 18M 0603 1%; Watt: 100mW; Package: RESC0603X60N; EDM-PN: *; Text2: *; Reutech PN: *; SAAB PN: *; DCE Part No: *
footprint RESC0603X60N (Chip Resistor, 0603, 2-Leads, Body 1.6x0.8mm, IPC Medium Density)
pins: 1, 2

## 18M_0805
designator R?, comment value 18M  Tol: 1%  Text1: 0805  (hidden comment: 18M_R0805_1%)
Resistor Chip SMD; Manufacturer: Various; Part Number: 18M 0805 1%; Watt: 125mW; Package: RESC0805X65N; EDM-PN: *; Text2: *; Reutech PN: *; SAAB PN: *; DCE Part No: *
footprint RESC0805X65N (Chip Resistor, 0805, 2-Leads, Body 2.0x1.3mm, IPC Medium Density)
pins: 1, 2

## 18M_0805-5%
designator R?, comment value 18M  Tol: 5%  Text1: 0805  (hidden comment: 18M_R0805_5%)
Resistor Chip SMD; Manufacturer: Various; Part Number: 18M 0805 5%; Watt: 125mW; Package: RESC0805X65N; EDM-PN: *; Text2: *; Reutech PN: *; SAAB PN: *; DCE Part No: *
footprint RESC0805X65N (Chip Resistor, 0805, 2-Leads, Body 2.0x1.3mm, IPC Medium Density)
pins: 1, 2

## 18M_0805-5%-Yageo
designator R?, comment value 18M  Tol: 5%  Text1: 0805  (hidden comment: 18M_R0805_5%-Yageo)
Resistor Thick Film; Manufacturer: Yageo; Part Number: RC0805JR-0718ML; Watt: 125mW; Package: RESC0805X65N; EDM-PN: *; Text2: *; Reutech PN: *; SAAB PN: *; DCE Part No: *
footprint RESC0805X65N (Chip Resistor, 0805, 2-Leads, Body 2.0x1.3mm, IPC Medium Density)
pins: 1, 2

## 18M_0805-RC0805JR-0718ML
designator R?, comment value 18M  Tol: 5%  Text1: 0805  (hidden comment: RC0805JR-0718ML)
Resistor Thick Film; Manufacturer: Yageo; Watt: 125mW; Part Number: RC0805JR-0718ML; Package: RESC0805X65N; EDM-PN: *; Text2: *; Reutech PN: *; SAAB PN: *; DCE Part No: *
footprint RESC0805X65N (Chip Resistor, 0805, 2-Leads, Body 2.0x1.3mm, IPC Medium Density)
pins: 1, 2

## 18M_1206
designator R?, comment value 18M  Tol: 1%  Text1: 1206  (hidden comment: 18M_R1206_1%)
Resistor Chip SMD; Manufacturer: Various; Part Number: 18M 1206 1%; Watt: 250mW; Package: RESC1206X71N; EDM-PN: *; Text2: *; Reutech PN: *; SAAB PN: *; DCE Part No: *
footprint RESC1206X71N (Chip Resistor, 1206, 2-Leads, Body 3.2x1.6mm, IPC Medium Density)
pins: 1, 2

## 18R_0402
designator R?, comment value 18R  Tol: 1%  Text1: 0402  (hidden comment: 18R_R0402_1%)
Resistor Chip SMD; Manufacturer: Various; Part Number: 18R 0402 1%; Watt: 63mW; Package: RESC0402X40N; EDM-PN: *; Text2: *; Reutech PN: *; SAAB PN: *; DCE Part No: *
footprint RESC0402X40N (Chip Resistor, 0402, 2-Leads, Body 1.1x0.5mm, IPC Medium Density)
pins: 1, 2

## 18R_0603
designator R?, comment value 18R  Tol: 1%  Text1: 0603  (hidden comment: 18R_R0603_1%)
Resistor Chip SMD; Manufacturer: Various; Part Number: 18R 0603 1%; Watt: 100mW; Package: RESC0603X60N; EDM-PN: *; Text2: *; Reutech PN: *; SAAB PN: *; DCE Part No: *
footprint RESC0603X60N (Chip Resistor, 0603, 2-Leads, Body 1.6x0.8mm, IPC Medium Density)
pins: 1, 2

## 18R_0805
designator R?, comment value 18R  Tol: 1%  Text1: 0805  (hidden comment: 18R_R0805_1%)
Resistor Chip SMD; Manufacturer: Various; Part Number: 18R 0805 1%; Watt: 125mW; Package: RESC0805X65N; EDM-PN: *; Text2: *; Reutech PN: *; SAAB PN: *; DCE Part No: *
footprint RESC0805X65N (Chip Resistor, 0805, 2-Leads, Body 2.0x1.3mm, IPC Medium Density)
pins: 1, 2

## 18R_1206
designator R?, comment value 18R  Tol: 1%  Text1: 1206  (hidden comment: 18R_R1206_1%)
Resistor Chip SMD; Manufacturer: Various; Part Number: 18R 1206 1%; Watt: 250mW; Package: RESC1206X71N; EDM-PN: *; Text2: *; Reutech PN: *; SAAB PN: *; DCE Part No: *
footprint RESC1206X71N (Chip Resistor, 1206, 2-Leads, Body 3.2x1.6mm, IPC Medium Density)
pins: 1, 2

## 18R_1206-5%
designator R?, comment value 18R  Tol: 5%  Text1: 1206  (hidden comment: 18R_R1206_5%)
Resistor Chip SMD; Manufacturer: Various; Part Number: 18R 1206 5%; Watt: 250mW; Package: RESC1206X71N; EDM-PN: *; Text2: *; Reutech PN: *; SAAB PN: *; DCE Part No: *
footprint RESC1206X71N (Chip Resistor, 1206, 2-Leads, Body 3.2x1.6mm, IPC Medium Density)
pins: 1, 2

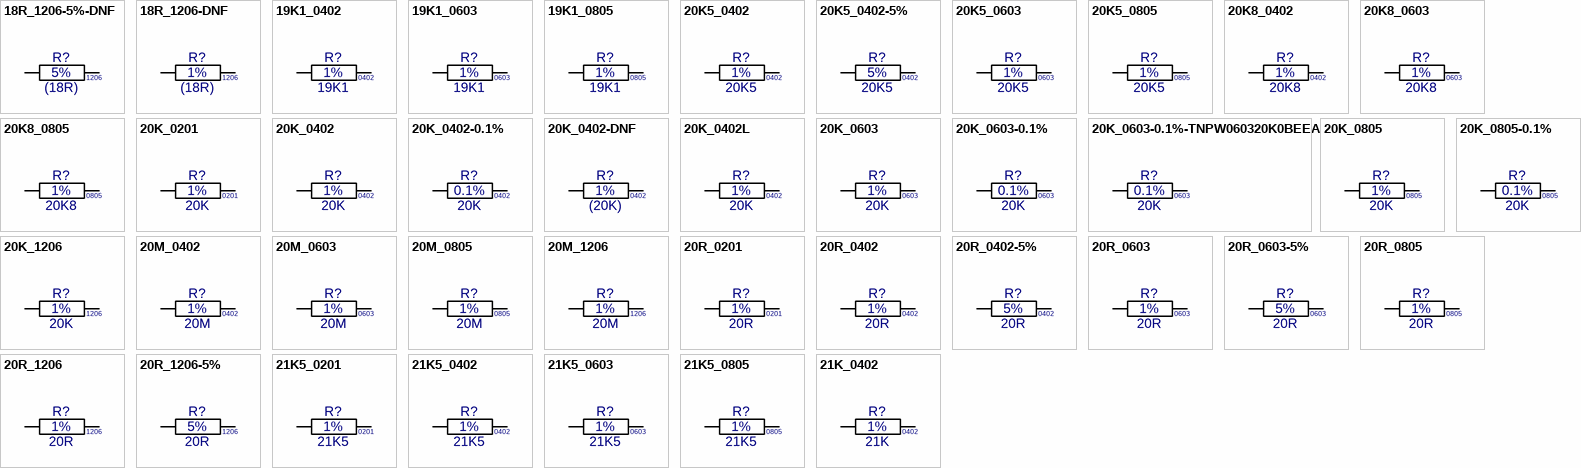
[diagram p26: symbols 18R_1206-5%-DNF to 21K_0402]

## 18R_1206-5%-DNF
designator R?, comment value (18R)  Tol: 5%  Text1: 1206  (hidden comment: 18R_R1206_5%)
Resistor Chip SMD - Do not Fit; Manufacturer: Various; Part Number: DNF - 18R 1206 5%; Watt: 250mW; Package: RESC1206X71N; EDM-PN: *; Text2: *; Reutech PN: *; SAAB PN: *; DCE Part No: *
footprint RESC1206X71N (Chip Resistor, 1206, 2-Leads, Body 3.2x1.6mm, IPC Medium Density)
pins: 1, 2

## 18R_1206-DNF
designator R?, comment value (18R)  Tol: 1%  Text1: 1206  (hidden comment: 18R_R1206_1%)
Resistor Chip SMD - Do not Fit; Manufacturer: Various; Part Number: DNF - 18R 1206 1%; Watt: 250mW; Package: RESC1206X71N; EDM-PN: *; Text2: *; Reutech PN: *; SAAB PN: *; DCE Part No: *
footprint RESC1206X71N (Chip Resistor, 1206, 2-Leads, Body 3.2x1.6mm, IPC Medium Density)
pins: 1, 2

## 19K1_0402
designator R?, comment value 19K1  Tol: 1%  Text1: 0402  (hidden comment: 19K1_R0402_1%)
Resistor Chip SMD; Manufacturer: Various; Part Number: 19K1 0402 1%; Watt: 63mW; Package: RESC0402X40N; EDM-PN: *; Text2: *; Reutech PN: *; SAAB PN: *; DCE Part No: *
footprint RESC0402X40N (Chip Resistor, 0402, 2-Leads, Body 1.1x0.5mm, IPC Medium Density)
pins: 1, 2

## 19K1_0603
designator R?, comment value 19K1  Tol: 1%  Text1: 0603  (hidden comment: 19K1_R0603_1%)
Resistor Chip SMD; Manufacturer: Various; Part Number: 19K1 0603 1%; Watt: 100mW; Package: RESC0603X60N; EDM-PN: *; Text2: *; Reutech PN: *; SAAB PN: *; DCE Part No: *
footprint RESC0603X60N (Chip Resistor, 0603, 2-Leads, Body 1.6x0.8mm, IPC Medium Density)
pins: 1, 2

## 19K1_0805
designator R?, comment value 19K1  Tol: 1%  Text1: 0805  (hidden comment: 19K1_R0805_1%)
Resistor Chip SMD; Manufacturer: Various; Part Number: 19K1 0805 1%; Watt: 125mW; Package: RESC0805X65N; EDM-PN: *; Text2: *; Reutech PN: *; SAAB PN: *; DCE Part No: *
footprint RESC0805X65N (Chip Resistor, 0805, 2-Leads, Body 2.0x1.3mm, IPC Medium Density)
pins: 1, 2

## 20K5_0402
designator R?, comment value 20K5  Tol: 1%  Text1: 0402  (hidden comment: 20K5_R0402_1%)
Resistor Chip SMD; Manufacturer: Various; Part Number: 20K5 0402 1%; Watt: 63mW; Package: RESC0402X40N; EDM-PN: *; Text2: *; Reutech PN: *; SAAB PN: *; DCE Part No: *
footprint RESC0402X40N (Chip Resistor, 0402, 2-Leads, Body 1.1x0.5mm, IPC Medium Density)
pins: 1, 2

## 20K5_0402-5%
designator R?, comment value 20K5  Tol: 5%  Text1: 0402  (hidden comment: 20K5_R0402_5%)
Resistor Chip SMD; Manufacturer: Various; Part Number: 20K5 0402 5%; Watt: 63mW; Package: RESC0402X40N; EDM-PN: *; Text2: *; Reutech PN: *; SAAB PN: *; DCE Part No: *
footprint RESC0402X40N (Chip Resistor, 0402, 2-Leads, Body 1.1x0.5mm, IPC Medium Density)
pins: 1, 2

## 20K5_0603
designator R?, comment value 20K5  Tol: 1%  Text1: 0603  (hidden comment: 20K5_R0603_1%)
Resistor Chip SMD; Manufacturer: Various; Part Number: 20K5 0603 1%; Watt: 100mW; Package: RESC0603X60N; EDM-PN: *; Text2: *; Reutech PN: *; SAAB PN: *; DCE Part No: *
footprint RESC0603X60N (Chip Resistor, 0603, 2-Leads, Body 1.6x0.8mm, IPC Medium Density)
pins: 1, 2

## 20K5_0805
designator R?, comment value 20K5  Tol: 1%  Text1: 0805  (hidden comment: 20K5_R0805_1%)
Resistor Chip SMD; Manufacturer: Various; Part Number: 20K5 0805 1%; Watt: 125mW; Package: RESC0805X65N; EDM-PN: *; Text2: *; Reutech PN: *; SAAB PN: *; DCE Part No: *
footprint RESC0805X65N (Chip Resistor, 0805, 2-Leads, Body 2.0x1.3mm, IPC Medium Density)
pins: 1, 2

## 20K8_0402
designator R?, comment value 20K8  Tol: 1%  Text1: 0402  (hidden comment: 20K8_R0402_1%)
Resistor Chip SMD; Manufacturer: Various; Part Number: 20K8 0402 1%; Watt: 63mW; Package: RESC0402X40N; EDM-PN: *; Text2: *; Reutech PN: *; SAAB PN: *; DCE Part No: *
footprint RESC0402X40N (Chip Resistor, 0402, 2-Leads, Body 1.1x0.5mm, IPC Medium Density)
pins: 1, 2

## 20K8_0603
designator R?, comment value 20K8  Tol: 1%  Text1: 0603  (hidden comment: 20K8_R0603_1%)
Resistor Chip SMD; Manufacturer: Various; Part Number: 20K8 0603 1%; Watt: 100mW; Package: RESC0603X60N; EDM-PN: *; Text2: *; Reutech PN: *; SAAB PN: *; DCE Part No: *
footprint RESC0603X60N (Chip Resistor, 0603, 2-Leads, Body 1.6x0.8mm, IPC Medium Density)
pins: 1, 2

## 20K8_0805
designator R?, comment value 20K8  Tol: 1%  Text1: 0805  (hidden comment: 20K8_R0805_1%)
Resistor Chip SMD; Manufacturer: Various; Part Number: 20K8 0805 1%; Watt: 125mW; Package: RESC0805X65N; EDM-PN: *; Text2: *; Reutech PN: *; SAAB PN: *; DCE Part No: *
footprint RESC0805X65N (Chip Resistor, 0805, 2-Leads, Body 2.0x1.3mm, IPC Medium Density)
pins: 1, 2

## 20K_0201
designator R?, comment value 20K  Tol: 1%  Text1: 0201  (hidden comment: 20K_R0201_1%)
Resistor Chip SMD; Manufacturer: Various; Part Number: 20K 0201 1%; Watt: 31mW; Package: RESC0201X33N; EDM-PN: *; Text2: *; Reutech PN: *; SAAB PN: *; DCE Part No: *
footprint RESC0201X33N (Chip Resistor, 0201, 2-Leads, Body 0.6x0.3mm, IPC Medium Density)
pins: 1, 2

## 20K_0402
designator R?, comment value 20K  Tol: 1%  Text1: 0402  (hidden comment: 20K_R0402_1%)
Resistor Chip SMD; Manufacturer: Various; Part Number: 20K 0402 1%; DCE Part No: 7148; Watt: 63mW; EDM-PN: RES886; Package: RESC0402X40N; Text2: *; Reutech PN: *; SAAB PN: *
footprint RESC0402X40N (Chip Resistor, 0402, 2-Leads, Body 1.1x0.5mm, IPC Medium Density)
pins: 1, 2

## 20K_0402-0.1%
designator R?, comment value 20K  Tol: 0.1%  Text1: 0402  (hidden comment: 20K_R0402_0.1%)
Resistor Chip SMD; Manufacturer: Various; Part Number: 20K 0402 0.1%; Watt: 63mW; Package: RESC0402X40N; EDM-PN: *; Text2: *; Reutech PN: *; SAAB PN: *; DCE Part No: *
footprint RESC0402X40N (Chip Resistor, 0402, 2-Leads, Body 1.1x0.5mm, IPC Medium Density)
pins: 1, 2

## 20K_0402-DNF
designator R?, comment value (20K)  Tol: 1%  Text1: 0402  (hidden comment: 20K_R0402_1%)
Resistor Chip SMD - Do not Fit; Manufacturer: Various; Part Number: DNF - 20K 0402 1%; Watt: 63mW; Package: RESC0402X40N; EDM-PN: *; Text2: *; Reutech PN: *; SAAB PN: *; DCE Part No: *
footprint RESC0402X40N (Chip Resistor, 0402, 2-Leads, Body 1.1x0.5mm, IPC Medium Density)
pins: 1, 2

## 20K_0402L
designator R?, comment value 20K  Tol: 1%  Text1: 0402  (hidden comment: 20K_R0402_1%)
Resistor Chip SMD; Manufacturer: Various; Part Number: 20K 0402 1%; DCE Part No: 7148; Watt: 63mW; EDM-PN: RES886; Package: RESC0402X40L; Text2: *; Reutech PN: *; SAAB PN: *
footprint RESC0402X40L (Chip Resistor, 0402, 2-Leads, Body 1.1x0.5mm, IPC High Density)
pins: 1, 2

## 20K_0603
designator R?, comment value 20K  Tol: 1%  Text1: 0603  (hidden comment: 20K_R0603_1%)
Resistor Chip SMD; Manufacturer: Various; Part Number: 20K 0603 1%; Watt: 100mW; EDM-PN: RES586; Package: RESC0603X60N; Text2: *; Reutech PN: 5905-93-2002; SAAB PN: *; DCE Part No: *
footprint RESC0603X60N (Chip Resistor, 0603, 2-Leads, Body 1.6x0.8mm, IPC Medium Density)
pins: 1, 2

## 20K_0603-0.1%
designator R?, comment value 20K  Tol: 0.1%  Text1: 0603  (hidden comment: 20K_R0603-0.1%)
Resistor Chip SMD; Manufacturer: Various; Part Number: 20K 0603 0.1%; Watt: 100mW; Reutech PN: 5905-CR-0018; Package: RESC0603X60N; EDM-PN: *; Text2: *; SAAB PN: *; DCE Part No: *
footprint RESC0603X60N (Chip Resistor, 0603, 2-Leads, Body 1.6x0.8mm, IPC Medium Density)
pins: 1, 2

## 20K_0603-0.1%-TNPW060320K0BEEA
designator R?, comment value 20K  Tol: 0.1%  Text1: 0603  (hidden comment: TNPW060320K0BEEA)
Resistor Chip SMD Automotive AEC-Q200; Manufacturer: Vishay; Watt: 125mW; Reutech PN: 5905-CR-0018; Part Number: TNPW060320K0BEEA; Package: RESC0603X60N; EDM-PN: *; Text2: *; SAAB PN: *; DCE Part No: *
footprint RESC0603X60N (Chip Resistor, 0603, 2-Leads, Body 1.6x0.8mm, IPC Medium Density)
pins: 1, 2

## 20K_0805
designator R?, comment value 20K  Tol: 1%  Text1: 0805  (hidden comment: 20K_R0805_1%)
Resistor Chip SMD; Manufacturer: Various; Part Number: 20K 0805 1%; Watt: 125mW; Package: RESC0805X65N; EDM-PN: *; Text2: *; Reutech PN: *; SAAB PN: *; DCE Part No: *
footprint RESC0805X65N (Chip Resistor, 0805, 2-Leads, Body 2.0x1.3mm, IPC Medium Density)
pins: 1, 2

## 20K_0805-0.1%
designator R?, comment value 20K  Tol: 0.1%  Text1: 0805  (hidden comment: 20K_R0805_0.1%)
Resistor Chip SMD; Manufacturer: Various; Part Number: 20K 0805 0.1%; Watt: 125mW; Package: RESC0805X65N; EDM-PN: *; Text2: *; Reutech PN: *; SAAB PN: *; DCE Part No: *
footprint RESC0805X65N (Chip Resistor, 0805, 2-Leads, Body 2.0x1.3mm, IPC Medium Density)
pins: 1, 2

## 20K_1206
designator R?, comment value 20K  Tol: 1%  Text1: 1206  (hidden comment: 20K_R1206_1%)
Resistor Chip SMD; Manufacturer: Various; Part Number: 20K 1206 1%; Watt: 250mW; Package: RESC1206X71N; EDM-PN: *; Text2: *; Reutech PN: 5905-97-2002; SAAB PN: *; DCE Part No: *
footprint RESC1206X71N (Chip Resistor, 1206, 2-Leads, Body 3.2x1.6mm, IPC Medium Density)
pins: 1, 2

## 20M_0402
designator R?, comment value 20M  Tol: 1%  Text1: 0402  (hidden comment: 20M_R0402_1%)
Resistor Chip SMD; Manufacturer: Various; Part Number: 20M 0402 1%; Watt: 63mW; Package: RESC0402X40N; EDM-PN: *; Text2: *; Reutech PN: *; SAAB PN: *; DCE Part No: *
footprint RESC0402X40N (Chip Resistor, 0402, 2-Leads, Body 1.1x0.5mm, IPC Medium Density)
pins: 1, 2

## 20M_0603
designator R?, comment value 20M  Tol: 1%  Text1: 0603  (hidden comment: 20M_R0603_1%)
Resistor Chip SMD; Manufacturer: Various; Part Number: 20M 0603 1%; Watt: 100mW; Package: RESC0603X60N; EDM-PN: *; Text2: *; Reutech PN: *; SAAB PN: *; DCE Part No: *
footprint RESC0603X60N (Chip Resistor, 0603, 2-Leads, Body 1.6x0.8mm, IPC Medium Density)
pins: 1, 2

## 20M_0805
designator R?, comment value 20M  Tol: 1%  Text1: 0805  (hidden comment: 20M_R0805_1%)
Resistor Chip SMD; Manufacturer: Various; Part Number: 20M 0805 1%; Watt: 125mW; Package: RESC0805X65N; EDM-PN: *; Text2: *; Reutech PN: *; SAAB PN: *; DCE Part No: *
footprint RESC0805X65N (Chip Resistor, 0805, 2-Leads, Body 2.0x1.3mm, IPC Medium Density)
pins: 1, 2

## 20M_1206
designator R?, comment value 20M  Tol: 1%  Text1: 1206  (hidden comment: 20M_R1206_1%)
Resistor Chip SMD; Manufacturer: Various; Part Number: 20M 1206 1%; Watt: 250mW; Package: RESC1206X71N; EDM-PN: *; Text2: *; Reutech PN: *; SAAB PN: *; DCE Part No: *
footprint RESC1206X71N (Chip Resistor, 1206, 2-Leads, Body 3.2x1.6mm, IPC Medium Density)
pins: 1, 2

## 20R_0201
designator R?, comment value 20R  Tol: 1%  Text1: 0201  (hidden comment: 20R_R0201_1%)
Resistor Chip SMD; Manufacturer: Various; Part Number: 20R 0201 1%; Watt: 31mW; Package: RESC0201X33N; EDM-PN: *; Text2: *; Reutech PN: *; SAAB PN: *; DCE Part No: *
footprint RESC0201X33N (Chip Resistor, 0201, 2-Leads, Body 0.6x0.3mm, IPC Medium Density)
pins: 1, 2

## 20R_0402
designator R?, comment value 20R  Tol: 1%  Text1: 0402  (hidden comment: 20R_R0402_1%)
Resistor Chip SMD; Manufacturer: Various; Part Number: 20R 0402 1%; Watt: 63mW; Package: RESC0402X40N; EDM-PN: *; Text2: *; Reutech PN: *; SAAB PN: *; DCE Part No: *
footprint RESC0402X40N (Chip Resistor, 0402, 2-Leads, Body 1.1x0.5mm, IPC Medium Density)
pins: 1, 2

## 20R_0402-5%
designator R?, comment value 20R  Tol: 5%  Text1: 0402  (hidden comment: 20R_R0402_5%)
Resistor Chip SMD; Manufacturer: Various; Part Number: 20R 0402 5%; Watt: 63mW; Package: RESC0402X40N; EDM-PN: *; Text2: *; Reutech PN: *; SAAB PN: *; DCE Part No: *
footprint RESC0402X40N (Chip Resistor, 0402, 2-Leads, Body 1.1x0.5mm, IPC Medium Density)
pins: 1, 2

## 20R_0603
designator R?, comment value 20R  Tol: 1%  Text1: 0603  (hidden comment: 20R_R0603_1%)
Resistor Chip SMD; Manufacturer: Various; Part Number: 20R 0603 1%; Watt: 100mW; Package: RESC0603X60N; EDM-PN: *; Text2: *; Reutech PN: *; SAAB PN: *; DCE Part No: *
footprint RESC0603X60N (Chip Resistor, 0603, 2-Leads, Body 1.6x0.8mm, IPC Medium Density)
pins: 1, 2

## 20R_0603-5%
designator R?, comment value 20R  Tol: 5%  Text1: 0603  (hidden comment: 20R_R0603_5%)
Resistor Chip SMD; Manufacturer: Various; Part Number: 20R 0603 5%; Watt: 100mW; Package: RESC0603X60N; EDM-PN: *; Text2: *; Reutech PN: *; SAAB PN: *; DCE Part No: *
footprint RESC0603X60N (Chip Resistor, 0603, 2-Leads, Body 1.6x0.8mm, IPC Medium Density)
pins: 1, 2

## 20R_0805
designator R?, comment value 20R  Tol: 1%  Text1: 0805  (hidden comment: 20R_R0805_1%)
Resistor Chip SMD; Manufacturer: Various; Part Number: 20R 0805 1%; Watt: 125mW; Package: RESC0805X65N; EDM-PN: *; Text2: *; Reutech PN: *; SAAB PN: *; DCE Part No: *
footprint RESC0805X65N (Chip Resistor, 0805, 2-Leads, Body 2.0x1.3mm, IPC Medium Density)
pins: 1, 2

## 20R_1206
designator R?, comment value 20R  Tol: 1%  Text1: 1206  (hidden comment: 20R_R1206_1%)
Resistor Chip SMD; Manufacturer: Various; Part Number: 20R 1206 1%; Watt: 250mW; Package: RESC1206X71N; EDM-PN: *; Text2: *; Reutech PN: *; SAAB PN: *; DCE Part No: *
footprint RESC1206X71N (Chip Resistor, 1206, 2-Leads, Body 3.2x1.6mm, IPC Medium Density)
pins: 1, 2